# Altium footprint library DO35.PcbLib: 2 footprints
Each footprint in its own frame and in the unit in brackets; x right, y up, seen from the top. Pads: shape width x height; smd on the part's side, far side on the other; paste and mask are expansions set on the pad; w line width, h text height; cw(c..) or ccw(c..) is an arc to the next point about the centre after c.
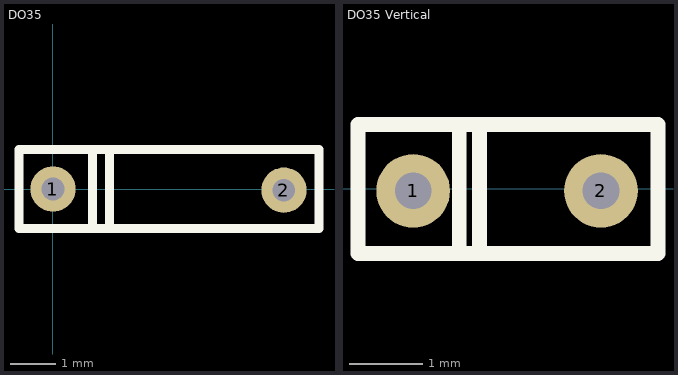
[diagram p0: the footprints below, top view; thin cyan lines are the x and y axes]

## DO35 [mm]
pads (2):
  round 1 hole 0.5: 1(0,0) 2(5.1,-0.025)
Top Overlay:
  lines w0.2: 0.875,-0.85 0.875,0.875 ; 1.25,-0.875 1.25,0.875 ; -0.75,-0.875 -0.75,0.875 5.875,0.875 5.875,-0.875 -0.75,-0.875
3D body: height 1.83, standoff -1, extent -0.2,-0.85 5.312,0.8

## DO35 Vertical [mm]
pads (2):
  round 1 hole 0.5: 1(2.55,-0.025) 2(5.1,-0.025)
Top Overlay:
  lines w0.2: 3.175,-0.875 3.175,0.85 ; 3.45,-0.875 3.45,0.875 ; 1.8,-0.875 5.875,-0.875 5.875,0.875 1.8,0.875 1.8,-0.875
3D body: height 5.02, standoff -1.5, extent 2.34,-0.85 5.921,0.8